# Altium integrated library WE-LLCR (rev20a).IntLib: 9 symbols
Pins are listed as number, name and electrical type; pins without a type are passive.

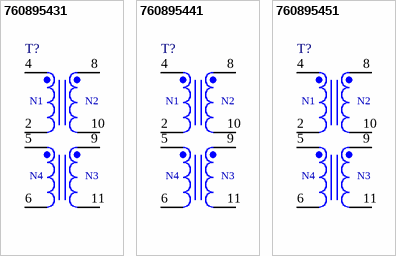
[diagram p0: symbols 760895431 to 760895451]

## 760895431
designator T?
WE-LLCR Resonant Converter, ETD34, THT, 360-400Vin, 12Vout, 150W; Manufacturer Part Number: 760895431; Manufacturer: Wurth Elektronik; Output Current: 12.5A; Inductance: 600uH; Saturation Current: 2A; Switching Frequency: 70-120kHz; Turns Ratio: 35:2:2:3; Auxiliary Voltage: 18V; Leakage Inductance: 100uH; Output Voltage: 12V; ComponentLink1Description: Manufacturer; ComponentLink1URL: http://www.we-online.de; ComponentLink2Description: Datasheet; ComponentLink2URL: https://www.we-online.com/catalog/datasheet/760895431.pdf; Published Date: April 2020; Packaging: Tray; Mounting Technology: THT; Input Voltage: 360-400V; Operating Temperature: -40 to +125degC; Size: ETD34; Output Power: 150W
footprint WE-LLCR_ETD34
pins: 2, 4, 5, 6, 8, 9, 10, 11
text: N1; N2; N4; N3

## 760895441
designator T?
WE-LLCR Resonant Converter, ETD34, THT, 360-400Vin, 24Vout, 150W; Manufacturer Part Number: 760895441; Manufacturer: Wurth Elektronik; Output Current: 6.2A; Inductance: 600uH; Saturation Current: 2A; Switching Frequency: 70-120kHz; Turns Ratio: 35:4:4:3; Auxiliary Voltage: 18V; Leakage Inductance: 100uH; Output Voltage: 24V; ComponentLink1Description: Manufacturer; ComponentLink1URL: http://www.we-online.de; ComponentLink2Description: Datasheet; ComponentLink2URL: https://www.we-online.com/catalog/datasheet/760895441.pdf; Published Date: April 2020; Packaging: Tray; Mounting Technology: THT; Input Voltage: 360-400V; Operating Temperature: -40 to +125degC; Size: ETD34; Output Power: 150W
footprint WE-LLCR_ETD34
pins: 2, 4, 5, 6, 8, 9, 10, 11
text: N1; N2; N4; N3

## 760895451
designator T?
WE-LLCR Resonant Converter, ETD34, THT, 360-400Vin, 48Vout, 150W; Manufacturer Part Number: 760895451; Manufacturer: Wurth Elektronik; Output Current: 3.1A; Inductance: 600uH; Saturation Current: 2A; Switching Frequency: 70-120kHz; Turns Ratio: 35:8:8:3; Auxiliary Voltage: 18V; Leakage Inductance: 100uH; Output Voltage: 48V; ComponentLink1Description: Manufacturer; ComponentLink1URL: http://www.we-online.de; ComponentLink2Description: Datasheet; ComponentLink2URL: https://www.we-online.com/catalog/datasheet/760895451.pdf; Published Date: April 2020; Packaging: Tray; Mounting Technology: THT; Input Voltage: 360-400V; Operating Temperature: -40 to +125degC; Size: ETD34; Output Power: 150W
footprint WE-LLCR_ETD34
pins: 2, 4, 5, 6, 8, 9, 10, 11
text: N1; N2; N4; N3


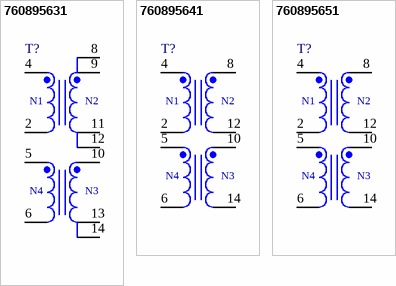
[diagram p1: symbols 760895631 to 760895651]

## 760895631
designator T?
WE-LLCR Resonant Converter, ETD39, THT, 360-400Vin, 12Vout, 200W; Manufacturer Part Number: 760895631; Manufacturer: Wurth Elektronik; Output Current: 16.7A; Inductance: 500uH; Saturation Current: 3.5A; Switching Frequency: 70-120kHz; Turns Ratio: 35:2:2:3; Auxiliary Voltage: 18V; Leakage Inductance: 95uH; Output Voltage: 12V; ComponentLink1Description: Manufacturer; ComponentLink1URL: http://www.we-online.de; ComponentLink2Description: Datasheet; ComponentLink2URL: https://www.we-online.com/catalog/datasheet/760895631.pdf; Published Date: April 2020; Packaging: Tray; Mounting Technology: THT; Input Voltage: 360-400V; Operating Temperature: -40 to +125degC; Size: ETD39; Output Power: 200W
footprint WE-LLCR_ETD39
pins: 2, 4, 5, 6, 8, 9, 10, 11, 12, 13, 14
text: N1; N2; N4; N3

## 760895641
designator T?
WE-LLCR Resonant Converter, ETD39, THT, 360-400Vin, 24Vout, 200W; Manufacturer Part Number: 760895641; Manufacturer: Wurth Elektronik; Output Current: 8.3A; Inductance: 500uH; Saturation Current: 3.5A; Switching Frequency: 70-120kHz; Turns Ratio: 35:4:4:3; Auxiliary Voltage: 18V; Leakage Inductance: 95uH; Output Voltage: 24V; ComponentLink1Description: Manufacturer; ComponentLink1URL: http://www.we-online.de; ComponentLink2Description: Datasheet; ComponentLink2URL: https://www.we-online.com/catalog/datasheet/760895641.pdf; Published Date: April 2020; Packaging: Tray; Mounting Technology: THT; Input Voltage: 360-400V; Operating Temperature: -40 to +125degC; Size: ETD39; Output Power: 200W
footprint WE-LLCR_ETD39
pins: 2, 4, 5, 6, 8, 10, 12, 14
text: N1; N2; N4; N3

## 760895651
designator T?
WE-LLCR Resonant Converter, ETD39, THT, 360-400Vin, 48Vout, 200W; Manufacturer Part Number: 760895651; Manufacturer: Wurth Elektronik; Output Current: 4.2A; Inductance: 500uH; Saturation Current: 3.5A; Switching Frequency: 70-120kHz; Turns Ratio: 35:8:8:3; Auxiliary Voltage: 18V; Leakage Inductance: 95uH; Output Voltage: 48V; ComponentLink1Description: Manufacturer; ComponentLink1URL: http://www.we-online.de; ComponentLink2Description: Datasheet; ComponentLink2URL: https://www.we-online.com/catalog/datasheet/760895651.pdf; Published Date: April 2020; Packaging: Tray; Mounting Technology: THT; Input Voltage: 360-400V; Operating Temperature: -40 to +125degC; Size: ETD39; Output Power: 200W
footprint WE-LLCR_ETD39
pins: 2, 4, 5, 6, 8, 10, 12, 14
text: N1; N2; N4; N3


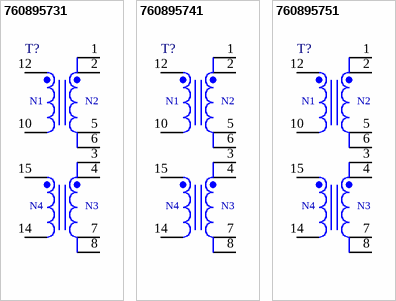
[diagram p2: symbols 760895731 to 760895751]

## 760895731
designator T?
WE-LLCR Resonant Converter, ETD44, THT, 360-400Vin, 12Vout, 250W; Manufacturer Part Number: 760895731; Manufacturer: Wurth Elektronik; Output Current: 20.8A; Inductance: 475uH; Saturation Current: 5A; Switching Frequency: 70-120kHz; Turns Ratio: 35:2:2:3; Auxiliary Voltage: 18V; Leakage Inductance: 100uH; Output Voltage: 12V; ComponentLink1Description: Manufacturer; ComponentLink1URL: http://www.we-online.de; ComponentLink2Description: Datasheet; ComponentLink2URL: https://www.we-online.com/catalog/datasheet/760895731.pdf; Published Date: April 2020; Packaging: Tray; Mounting Technology: THT; Input Voltage: 360-400V; Operating Temperature: -40 to +125degC; Size: ETD44; Output Power: 250W
footprint WE-LLCR_ETD44
pins: 1, 2, 3, 4, 5, 6, 7, 8, 10, 12, 14, 15
text: N1; N2; N4; N3

## 760895741
designator T?
WE-LLCR Resonant Converter, ETD44, THT, 360-400Vin, 24Vout, 250W; Manufacturer Part Number: 760895741; Manufacturer: Wurth Elektronik; Output Current: 10.4A; Inductance: 400uH; Saturation Current: 4.3A; Switching Frequency: 70-120kHz; Turns Ratio: 27:3:3:2; Auxiliary Voltage: 16V; Leakage Inductance: 65uH; Output Voltage: 24V; ComponentLink1Description: Manufacturer; ComponentLink1URL: http://www.we-online.de; ComponentLink2Description: Datasheet; ComponentLink2URL: https://www.we-online.com/catalog/datasheet/760895741.pdf; Published Date: April 2020; Packaging: Tray; Mounting Technology: THT; Input Voltage: 360-400V; Operating Temperature: -40 to +125degC; Size: ETD44; Output Power: 250W
footprint WE-LLCR_ETD44
pins: 1, 2, 3, 4, 5, 6, 7, 8, 10, 12, 14, 15
text: N1; N2; N4; N3

## 760895751
designator T?
WE-LLCR Resonant Converter, ETD44, THT, 360-400Vin, 48Vout, 250W; Manufacturer Part Number: 760895751; Manufacturer: Wurth Elektronik; Output Current: 5.2A; Inductance: 400uH; Saturation Current: 4.3A; Switching Frequency: 70-120kHz; Turns Ratio: 35:6:6:2; Auxiliary Voltage: 16V; Leakage Inductance: 65uH; Output Voltage: 48V; ComponentLink1Description: Manufacturer; ComponentLink1URL: http://www.we-online.de; ComponentLink2Description: Datasheet; ComponentLink2URL: https://www.we-online.com/catalog/datasheet/760895751.pdf; Published Date: April 2020; Packaging: Tray; Mounting Technology: THT; Input Voltage: 360-400V; Operating Temperature: -40 to +125degC; Size: ETD44; Output Power: 250W
footprint WE-LLCR_ETD44
pins: 1, 2, 3, 4, 5, 6, 7, 8, 10, 12, 14, 15
text: N1; N2; N4; N3